# Altium schematic symbol library TBP04R2-500-02BE.SchLib: 1 symbol
Pins are listed as number, name and electrical type; pins without a type are passive.

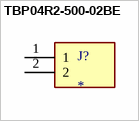
[diagram p0: symbol TBP04R2-500-02BE]

## TBP04R2-500-02BE
designator J?
2~24 Poles, Pluggable, Receptacle, Vertical, 5.0 Pitch, Terminal Block Connector; MF: Same Sky; MP: TBP04R2-500-02BE; SnapEDA_Link: https://www.snapeda.com/parts/TBP04R2-500-02BE/Same+Sky/view-part/?ref=snap; Package: None; Value: *; Check_prices: https://www.snapeda.com/parts/TBP04R2-500-02BE/Same+Sky/view-part/?ref=eda
footprint CUI_TBP04R2-500-02BE
pins: 1, 2